# Altium footprint library TRANS_EE85.PcbLib: 1 footprints
Each footprint in its own frame and in the unit in brackets; x right, y up, seen from the top. Pads: shape width x height; smd on the part's side, far side on the other; paste and mask are expansions set on the pad; w line width, h text height; cw(c..) or ccw(c..) is an arc to the next point about the centre after c.
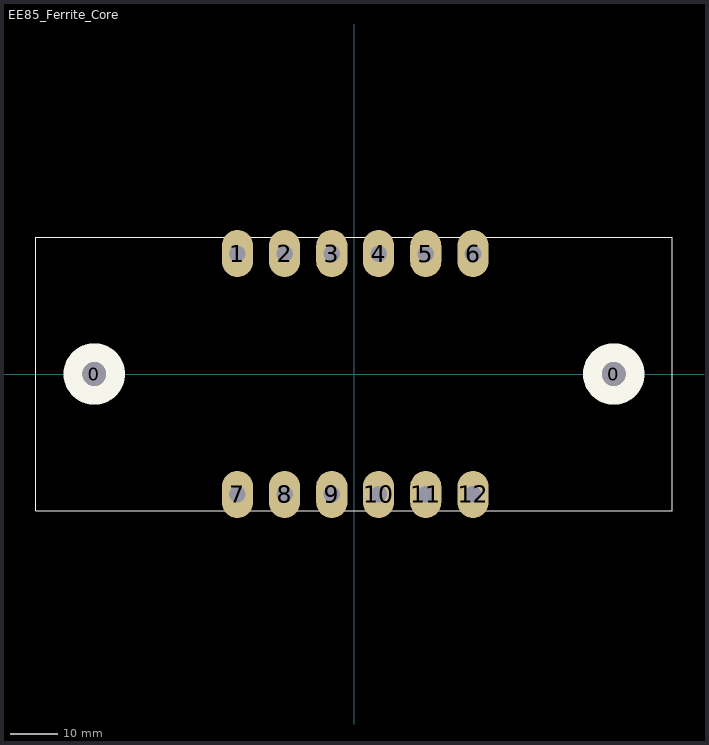
[diagram p0: the footprint, top view; thin cyan lines are the x and y axes]

## EE85_Ferrite_Core [mm]
pads (14):
  round 5.08 hole 5: 0(-55,0) 0(55,0)
  oval 6.6x10 hole 3.5: 1(-24.7,25.5) 2(-14.7,25.5) 3(-4.7,25.5) 4(5.2,25.5) 5(15.2,25.5) 6(25.2,25.5) 7(-24.7,-25.5) 8(-14.7,-25.5) 9(-4.7,-25.5) 10(5.2,-25.5) 11(15.2,-25.5) 12(25.2,-25.5)
Top Overlay:
  circle w4: c-55,0 r4.5
  circle w4: c55,0 r4.5
  lines w0.254: -67.373,-28.956 67.373,-28.956 67.373,28.956 -67.373,28.956 -67.373,-28.956
Bottom Overlay:
  circle w4: c55,0 r4.5
  circle w4: c-55,0 r4.5
3D body "E85A, сборка.STEP": height 93.65, standoff -1.5, extent -67.5,-29 67.5,29